# Altium footprint library DFN8G-0.5-2X2MM.PcbLib: 1 footprints
Each footprint in its own frame and in the unit in brackets; x right, y up, seen from the top. Pads: shape width x height; smd on the part's side, far side on the other; paste and mask are expansions set on the pad; w line width, h text height; cw(c..) or ccw(c..) is an arc to the next point about the centre after c.
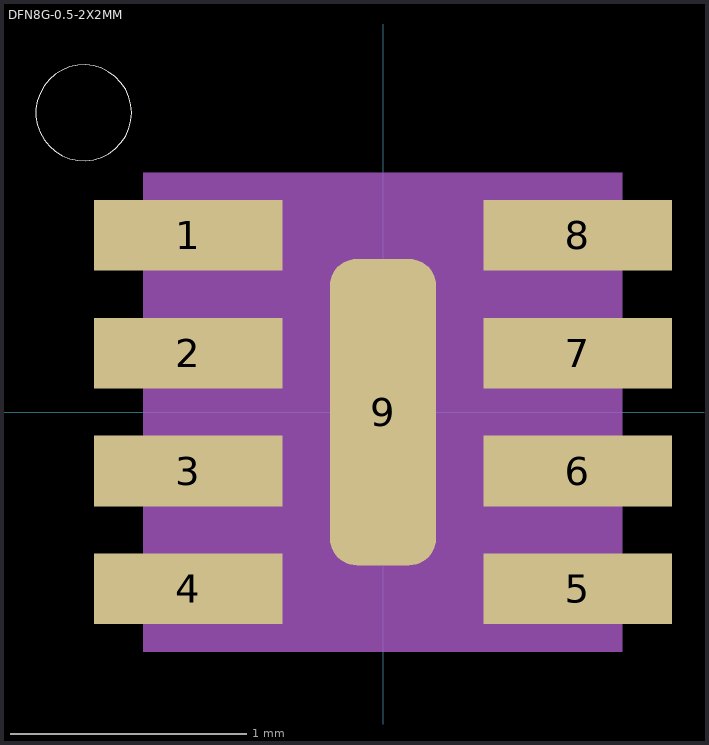
[diagram p0: the footprint, top view; thin cyan lines are the x and y axes]

## DFN8G-0.5-2X2MM [mm]
pads (9):
  rect 0.8x0.3 smd: 1(-0.827,0.75) 2(-0.827,0.25) 3(-0.827,-0.25) 4(-0.827,-0.75) 5(0.827,-0.75) 6(0.827,-0.25) 7(0.827,0.25) 8(0.827,0.75)
  rrect50% 0.45x1.3 smd: 9(0,0)
Top Overlay:
  circle w0: c-1.27,1.27 r0.203
Mechanical 15:
  region: 1.016,-1.017 -1.017,-1.017 -1.017,1.016 1.016,1.016